# Altium footprint library CONN_HEADER_4PWR_24SGL_2.36MM.PcbLib: 1 footprints
Each footprint in its own frame and in the unit in brackets; x right, y up, seen from the top. Pads: shape width x height; smd on the part's side, far side on the other; paste and mask are expansions set on the pad; w line width, h text height; cw(c..) or ccw(c..) is an arc to the next point about the centre after c.
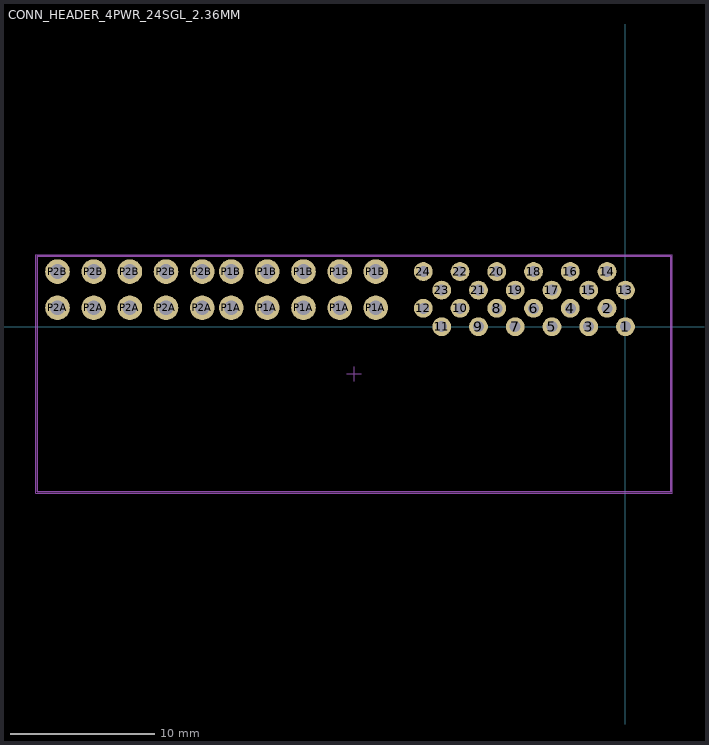
[diagram p0: the footprint, top view; thin cyan lines are the x and y axes]

## CONN_HEADER_4PWR_24SGL_2.36MM [mm]
pads (44):
  round 1.3 hole 0.76 unplated: 1(0,0) 2(-1.27,1.27) 3(-2.54,0) 4(-3.81,1.27) 5(-5.08,0) 6(-6.35,1.27) 7(-7.62,0) 8(-8.89,1.27) 9(-10.16,0) 10(-11.43,1.27) 11(-12.7,0) 12(-13.97,1.27) 13(0,2.53) 14(-1.27,3.81) 15(-2.54,2.53) 16(-3.81,3.81) 17(-5.08,2.53) 18(-6.35,3.81) 19(-7.62,2.53) 20(-8.89,3.81) 21(-10.16,2.53) 22(-11.43,3.81) 23(-12.7,2.53) 24(-13.97,3.81)
  round 1.7 hole 1.02 unplated: P1A(-27.25,1.31) P1A(-24.75,1.31) P1A(-22.25,1.31) P1A(-19.75,1.31) P1A(-17.25,1.31) P1B(-27.25,3.81) P1B(-24.75,3.81) P1B(-22.25,3.81) P1B(-19.75,3.81) P1B(-17.25,3.81) P2A(-39.25,1.31) P2A(-36.75,1.31) P2A(-34.25,1.31) P2A(-31.75,1.31) P2A(-29.25,1.31) P2B(-39.25,3.81) P2B(-36.75,3.81) P2B(-34.25,3.81) P2B(-31.75,3.81) P2B(-29.25,3.81)
Mechanical 13:
  lines w0.1: -40.65,-11.41 3.13,-11.41 3.13,4.87 -40.65,4.87 -40.65,-11.41
Mechanical 15:
  lines w0.05: -19.26,-3.27 -18.26,-3.27 ; -18.76,-3.77 -18.76,-2.77 ; -40.75,-11.51 3.23,-11.51 3.23,4.97 -40.75,4.97 -40.75,-11.51
3D body "459854142.stp": height 7.49, standoff -3.9, extent -40.65,-11.41 3.13,4.87